# EAGLE library part JY2941B (library densikit)
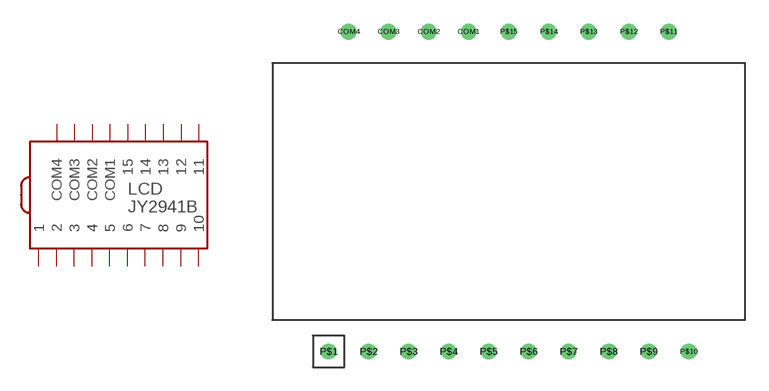
[diagram p15: symbol with the pads of JY2941B; footprint JY2941B]

Designator prefix LCD

## JY2941B  [JY2941B]
COM1  COM1
COM2  COM2
COM3  COM3
COM4  COM4
P$1  1
P$2  2
P$3  3
P$4  4
P$5  5
P$6  6
P$7  7
P$8  8
P$9  9
P$10  10
P$11  11
P$12  12
P$13  13
P$14  14
P$15  15

## Footprint JY2941B (pad centres in mm)
drill 0.5: COM1 8.89,20.3; COM2 6.35,20.3; COM3 3.81,20.3; COM4 1.27,20.3; P$1 0,0; P$2 2.54,0; P$3 5.08,0; P$4 7.62,0; P$5 10.16,0; P$6 12.7,0; P$7 15.24,0; P$8 17.78,0; P$9 20.32,0; P$10 22.86,0; P$11 21.59,20.3; P$12 19.05,20.3; P$13 16.51,20.3; P$14 13.97,20.3; P$15 11.43,20.3